# EAGLE library part ATTINY45 (library joshashby)
Attiny45
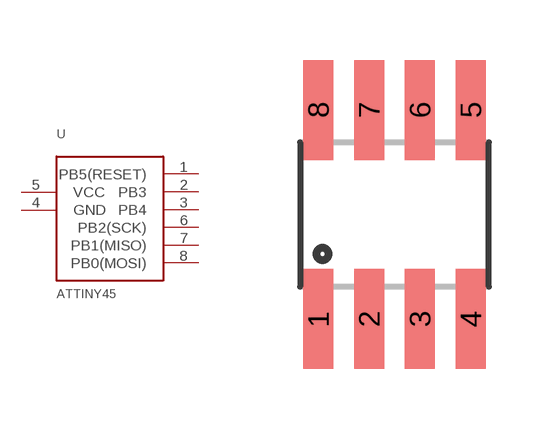
[diagram p1: symbol with the pads of SOIC-8; footprint SOIC-8]

Designator prefix -

## ATTINY45  [SOIC-8]
1  PB5(RESET)
2  PB3
3  PB4
4  GND
5  VCC
6  PB2(SCK)
7  PB1(MISO)
8  PB0(MOSI)

## Footprint SOIC-8 (pad centres in mm)
smd 0.75 x 2.5: 1 -1.905,-2.616; 2 -0.635,-2.616; 3 0.635,-2.616; 4 1.905,-2.616; 5 1.905,2.616; 6 0.635,2.616; 7 -0.635,2.616; 8 -1.905,2.616